# EAGLE library part SAMTEC_LSHM-130-DV_JB3 (library df4iah_connector)
SAMTEC LSHM-130-XX.X-X-DV-A-X-X-TR HIGH-SPEED HERMAPHRODITIC STRIP 60 Pos 0.5 mm padding
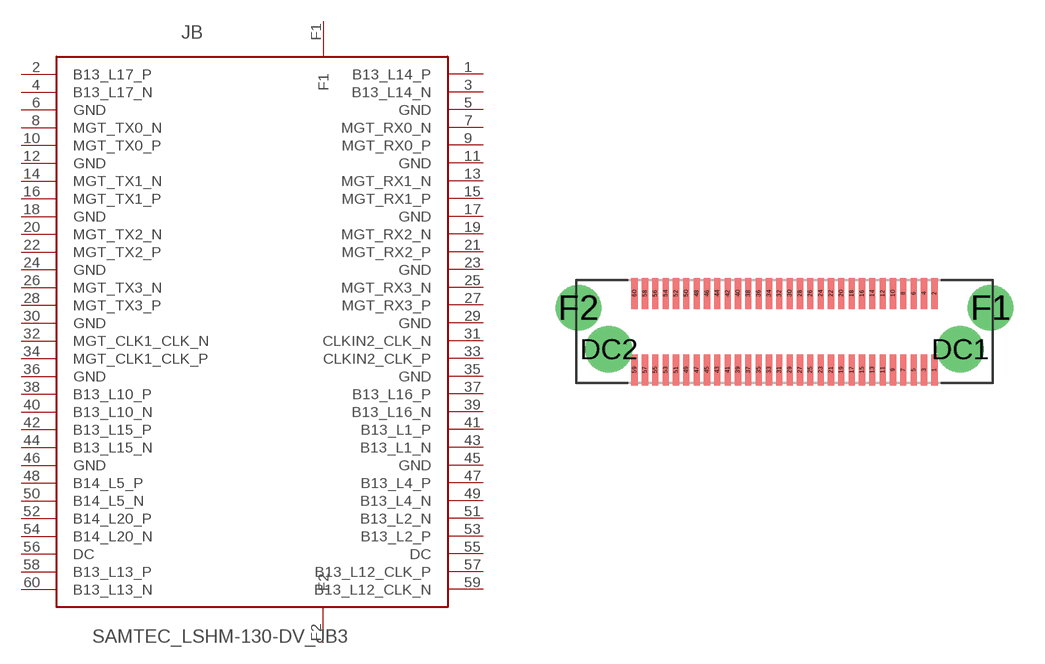
[diagram p34: symbol with the pads of SAMTEC_LSHM-130-DV; footprint SAMTEC_LSHM-130-DV]

Designator prefix JB

## SAMTEC_LSHM-130-DV_JB3  [SAMTEC_LSHM-130-DV]
1  B13_L14_P  pas
2  B13_L17_P  pas
3  B13_L14_N  pas
4  B13_L17_N  pas
5  GND  pas
6  GND  pas
7  MGT_RX0_N  pas
8  MGT_TX0_N  pas
9  MGT_RX0_P  pas
10  MGT_TX0_P  pas
11  GND  pas
12  GND  pas
13  MGT_RX1_N  pas
14  MGT_TX1_N  pas
15  MGT_RX1_P  pas
16  MGT_TX1_P  pas
17  GND  pas
18  GND  pas
19  MGT_RX2_N  pas
20  MGT_TX2_N  pas
21  MGT_RX2_P  pas
22  MGT_TX2_P  pas
23  GND  pas
24  GND  pas
25  MGT_RX3_N  pas
26  MGT_TX3_N  pas
27  MGT_RX3_P  pas
28  MGT_TX3_P  pas
29  GND  pas
30  GND  pas
31  CLKIN2_CLK_N  pas
32  MGT_CLK1_CLK_N  pas
33  CLKIN2_CLK_P  pas
34  MGT_CLK1_CLK_P  pas
35  GND  pas
36  GND  pas
37  B13_L16_P  pas
38  B13_L10_P  pas
39  B13_L16_N  pas
40  B13_L10_N  pas
41  B13_L1_P  pas
42  B13_L15_P  pas
43  B13_L1_N  pas
44  B13_L15_N  pas
45  GND  pas
46  GND  pas
47  B13_L4_P  pas
48  B14_L5_P  pas
49  B13_L4_N  pas
50  B14_L5_N  pas
51  B13_L2_N  pas
52  B14_L20_P  pas
53  B13_L2_P  pas
54  B14_L20_N  pas
55  DC  nc
56  DC  nc
57  B13_L12_CLK_P  pas
58  B13_L13_P  pas
59  B13_L12_CLK_N  pas
60  B13_L13_N  pas
F1  F1  pas
F2  F2  pas

## Footprint SAMTEC_LSHM-130-DV (pad centres in mm)
SAMTEC LSHM-130-XX.X-X-DV-A-X-X-TR HIGH-SPEED HERMAPHRODITIC STRIP 60 Pos 0.5 mm padding
smd 0.3 x 1.5: 1 7.25,-1.85; 2 7.25,1.85; 3 6.75,-1.85; 4 6.75,1.85; 5 6.25,-1.85; 6 6.25,1.85; 7 5.75,-1.85; 8 5.75,1.85; 9 5.25,-1.85; 10 5.25,1.85; 11 4.75,-1.85; 12 4.75,1.85; 13 4.25,-1.85; 14 4.25,1.85; 15 3.75,-1.85; 16 3.75,1.85; 17 3.25,-1.85; 18 3.25,1.85; 19 2.75,-1.85; 20 2.75,1.85; 21 2.25,-1.85; 22 2.25,1.85; 23 1.75,-1.85; 24 1.75,1.85; 25 1.25,-1.85; 26 1.25,1.85; 27 0.75,-1.85; 28 0.75,1.85; 29 0.25,-1.85; 30 0.25,1.85; 31 -0.25,-1.85; 32 -0.25,1.85; 33 -0.75,-1.85; 34 -0.75,1.85; 35 -1.25,-1.85; 36 -1.25,1.85; 37 -1.75,-1.85; 38 -1.75,1.85; 39 -2.25,-1.85; 40 -2.25,1.85; 41 -2.75,-1.85; 42 -2.75,1.85; 43 -3.25,-1.85; 44 -3.25,1.85; 45 -3.75,-1.85; 46 -3.75,1.85; 47 -4.25,-1.85; 48 -4.25,1.85; 49 -4.75,-1.85; 50 -4.75,1.85; 51 -5.25,-1.85; 52 -5.25,1.85; 53 -5.75,-1.85; 54 -5.75,1.85; 55 -6.25,-1.85; 56 -6.25,1.85; 57 -6.75,-1.85; 58 -6.75,1.85; 59 -7.25,-1.85; 60 -7.25,1.85
drill 1.5 pad 1.55: DC1 8.5,-0.85; DC2 -8.5,-0.85
drill 1 pad 2.2: F1 9.975,1.15; F2 -9.975,1.15